# EAGLE library part TSL1401CL (library TAOS-TSL1401CL)
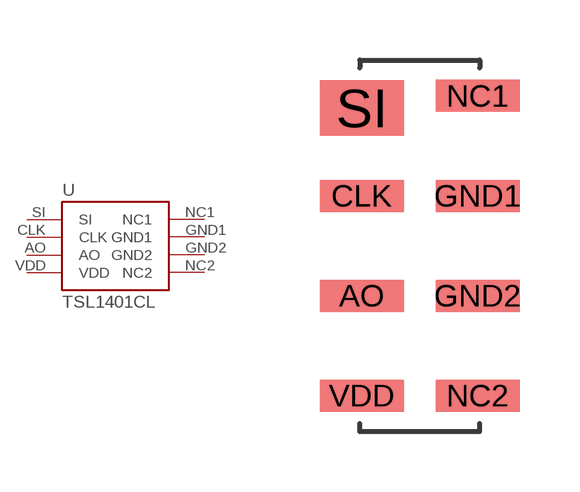
[diagram p0: symbol with the pads of TSL1401CL; footprint TSL1401CL]

Designator prefix -

## TSL1401CL  [TSL1401CL]
AO  AO
CLK  CLK
GND1  GND1
GND2  GND2
NC1  NC1
NC2  NC2
SI  SI
VDD  VDD

## Footprint TSL1401CL (pad centres in mm)
smd 2.1 x 0.8: AO -1.35,-1.3; CLK -1.35,1.2; GND1 1.55,1.2; GND2 1.55,-1.3; NC1 1.55,3.7; NC2 1.55,-3.8; VDD -1.35,-3.8
smd 2.1 x 1.4: SI -1.35,3.4